# EAGLE library part MBED-LPC1768 (library template)
MBED NXP LC1768外形及其对应排母
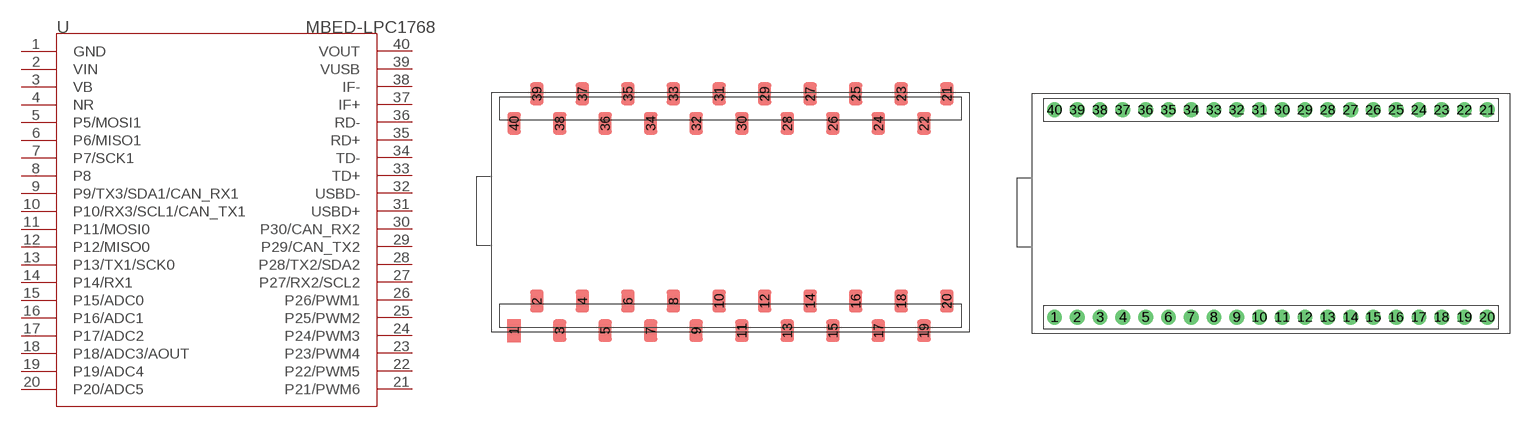
[diagram p11: symbol with the pads of 40P-SMD-2.54-53.34X36.67; footprints 40P-SMD-2.54-53.34X36.67, 40P-2.54-53.34X36.67]

Designator prefix U

## MBED-LPC1768-SMD  [40P-SMD-2.54-53.34X36.67]
1  GND
2  VIN
3  VB
4  NR
5  P5/MOSI1
6  P6/MISO1
7  P7/SCK1
8  P8
9  P9/TX3/SDA1/CAN_RX1
10  P10/RX3/SCL1/CAN_TX1
11  P11/MOSI0
12  P12/MISO0
13  P13/TX1/SCK0
14  P14/RX1
15  P15/ADC0
16  P16/ADC1
17  P17/ADC2
18  P18/ADC3/AOUT
19  P19/ADC4
20  P20/ADC5
21  P21/PWM6
22  P22/PWM5
23  P23/PWM4
24  P24/PWM3
25  P25/PWM2
26  P26/PWM1
27  P27/RX2/SCL2
28  P28/TX2/SDA2
29  P29/CAN_TX2
30  P30/CAN_RX2
31  USBD+
32  USBD-
33  TD+
34  TD-
35  RD+
36  RD-
37  IF+
38  IF-
39  VUSB
40  VOUT

## MBED-LPC1768-DIP40  [40P-2.54-53.34X36.67]
Pads as for 40P-SMD-2.54-53.34X36.67

## Footprint 40P-SMD-2.54-53.34X36.67 (pad centres in mm)
smd 1.524 x 2.54: 1 -24.13,-13.208; 2 -21.59,-9.906; 3 -19.05,-13.208; 4 -16.51,-9.906; 5 -13.97,-13.208; 6 -11.43,-9.906; 7 -8.89,-13.208; 8 -6.35,-9.906; 9 -3.81,-13.208; 10 -1.27,-9.906; 11 1.27,-13.208; 12 3.81,-9.906; 13 6.35,-13.208; 14 8.89,-9.906; 15 11.43,-13.208; 16 13.97,-9.906; 17 16.51,-13.208; 18 19.05,-9.906; 19 21.59,-13.208; 20 24.13,-9.906; 21 24.13,13.208; 22 21.59,9.906; 23 19.05,13.208; 24 16.51,9.906; 25 13.97,13.208; 26 11.43,9.906; 27 8.89,13.208; 28 6.35,9.906; 29 3.81,13.208; 30 1.27,9.906; 31 -1.27,13.208; 32 -3.81,9.906; 33 -6.35,13.208; 34 -8.89,9.906; 35 -11.43,13.208; 36 -13.97,9.906; 37 -16.51,13.208; 38 -19.05,9.906; 39 -21.59,13.208; 40 -24.13,9.906

## Footprint 40P-2.54-53.34X36.67 (pad centres in mm)
drill 0.889 pad 1.651: 1 -24.13,-11.557; 2 -21.59,-11.557; 3 -19.05,-11.557; 4 -16.51,-11.557; 5 -13.97,-11.557; 6 -11.43,-11.557; 7 -8.89,-11.557; 8 -6.35,-11.557; 9 -3.81,-11.557; 10 -1.27,-11.557; 11 1.27,-11.557; 12 3.81,-11.557; 13 6.35,-11.557; 14 8.89,-11.557; 15 11.43,-11.557; 16 13.97,-11.557; 17 16.51,-11.557; 18 19.05,-11.557; 19 21.59,-11.557; 20 24.13,-11.557; 21 24.13,11.557; 22 21.59,11.557; 23 19.05,11.557; 24 16.51,11.557; 25 13.97,11.557; 26 11.43,11.557; 27 8.89,11.557; 28 6.35,11.557; 29 3.81,11.557; 30 1.27,11.557; 31 -1.27,11.557; 32 -3.81,11.557; 33 -6.35,11.557; 34 -8.89,11.557; 35 -11.43,11.557; 36 -13.97,11.557; 37 -16.51,11.557; 38 -19.05,11.557; 39 -21.59,11.557; 40 -24.13,11.557